# EAGLE library part AE4575H-611 (library saw-filters-narrowband)
AE4575H-611 Параметр Ед. изм. Мин. значение Тип. значение Макс. значение Центральная частота МГц 610 611 612 Минимальное вносимое затухание дБ - 2.3 3 Полоса среза по уровню -2 дБ МГц 10 11 - Полоса среза по уровню -30 дБ МГц - 26 - Неравномерность АЧХ дБ - 0.7 2 Групповое время задержки нс - - - Гарантированное затухание дБ - 60 - Температурный диапазон °C -55 22 +85 Материал подложки - - Танталат лития 36 -
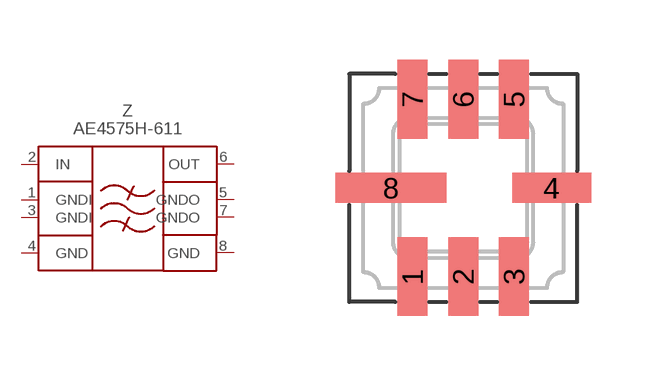
[diagram p174: symbol with the pads of QCC8; footprint QCC8]

Designator prefix Z

## AE4575H-611  [QCC8]
1  GNDI  pas
2  IN  pas
3  GNDI  pas
4  GND  pwr
5  GNDO  pas
6  OUT  pas
7  GNDO  pas
8  GND  pwr

## Footprint QCC8 (pad centres in mm)
smd 0.75 x 1.97: 1 -1.27,-2.215; 2 0,-2.215; 3 1.27,-2.215; 5 1.27,2.215; 6 0,2.215; 7 -1.27,2.215
smd 1.97 x 0.75: 4 2.215,0
smd 2.78 x 0.75: 8 -1.81,0